# Altium footprint library PASSIVE_SMD.PCBLIB: 238 footprints (part 14 of 15)
Each footprint in its own frame and in the unit in brackets; x right, y up, seen from the top. Pads: shape width x height; smd on the part's side, far side on the other; paste and mask are expansions set on the pad; w line width, h text height; cw(c..) or ccw(c..) is an arc to the next point about the centre after c.
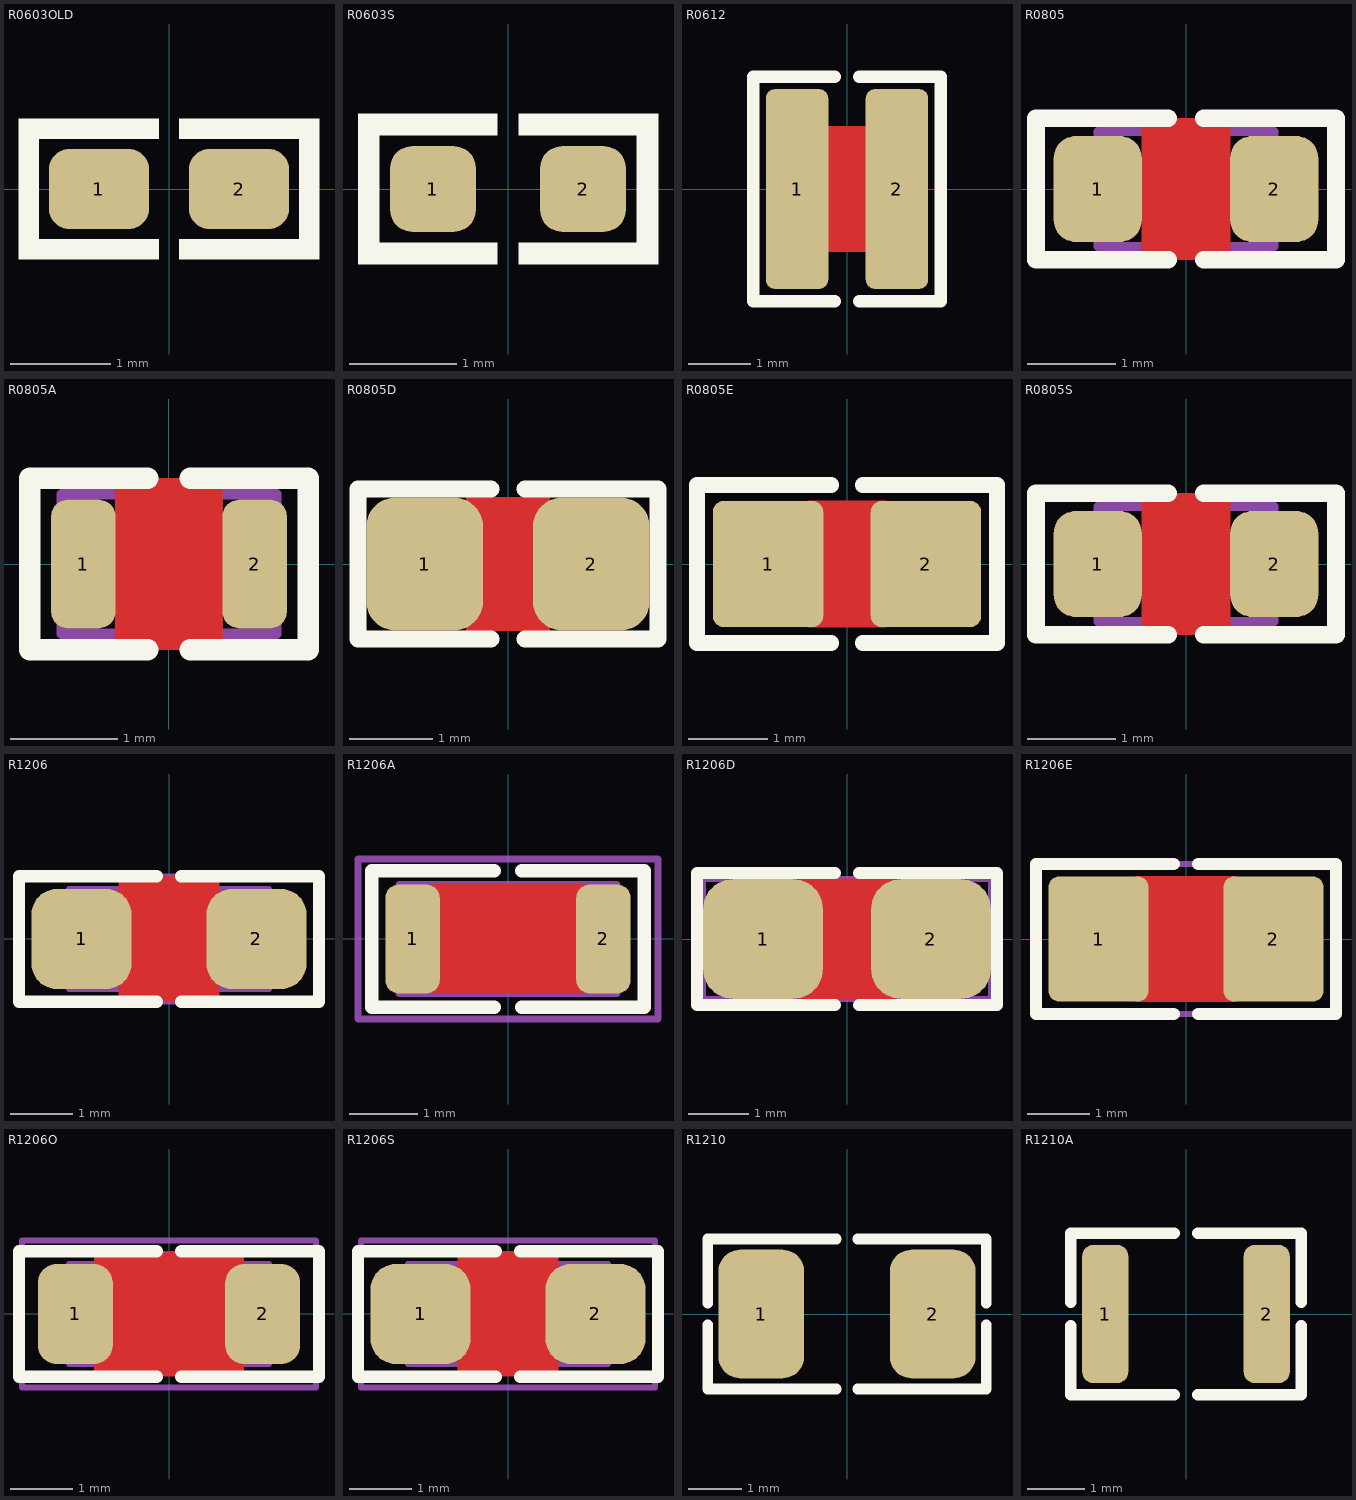
[diagram p13: the footprints below, top view; thin cyan lines are the x and y axes]

## R0603OLD [mm] "CHIP Resistor 1/10 WATT, 1.6x0.8mm, 0603, 1608"
height 0.6
pads (2):
  rrect50% 1x0.8 smd paste-0.4 mask+0.05: 1(-0.7,0) 2(0.7,0)
Top Overlay:
  region: -0.1,-0.5 -0.1,-0.7 -1.5,-0.7 -1.5,-0.5
  region: -0.1,0.5 -0.1,0.7 -1.5,0.7 -1.5,0.5
  region: -1.5,0.7 -1.3,0.7 -1.3,-0.7 -1.5,-0.7
  region: 1.5,0.7 1.3,0.7 1.3,-0.7 1.5,-0.7
  region: 0.1,0.5 0.1,0.7 1.5,0.7 1.5,0.5
  region: 0.1,-0.5 0.1,-0.7 1.5,-0.7 1.5,-0.5
Top Paste:
  region: 0.7,0.35 0.63,0.35 0.502,0.297 0.403,0.198 0.35,0.07 0.35,0 0.35,-0.07 0.403,-0.198 0.502,-0.297 0.63,-0.35 0.7,-0.35 0.9,-0.35 0.93,-0.35 0.985,-0.327 1.027,-0.285 1.05,-0.23 1.05,-0.2 1.05,0.2 1.05,0.23 1.027,0.285 0.985,0.327 0.93,0.35 0.9,0.35
  region: -0.7,0.35 -0.63,0.35 -0.502,0.297 -0.403,0.198 -0.35,0.07 -0.35,0 -0.35,-0.07 -0.403,-0.198 -0.502,-0.297 -0.63,-0.35 -0.7,-0.35 -0.9,-0.35 -0.93,-0.35 -0.985,-0.327 -1.027,-0.285 -1.05,-0.23 -1.05,-0.2 -1.05,0.2 -1.05,0.23 -1.027,0.285 -0.985,0.327 -0.93,0.35 -0.9,0.35
3D body "User Library-RES_1609-0603.step": height 0.56, standoff 0, extent -0.85,-0.4 0.85,0.4

## R0603S [mm] "CHIP Resistor 1/10 WATT, 1.6x0.8mm, 0603, 1608, soldered"
height 0.6
pads (2):
  rrect50% 0.8x0.8 smd paste-5 mask+0.075: 1(-0.7,0) 2(0.7,0)
Top Overlay:
  region: 0.1,-0.5 0.1,-0.7 1.4,-0.7 1.4,-0.5
  region: 0.1,0.5 0.1,0.7 1.4,0.7 1.4,0.5
  region: 1.4,0.7 1.2,0.7 1.2,-0.7 1.4,-0.7
  region: -1.4,0.7 -1.2,0.7 -1.2,-0.7 -1.4,-0.7
  region: -0.1,0.5 -0.1,0.7 -1.4,0.7 -1.4,0.5
  region: -0.1,-0.5 -0.1,-0.7 -1.4,-0.7 -1.4,-0.5
Top Paste:
  region: -0.7,0.35 -0.63,0.35 -0.502,0.297 -0.403,0.198 -0.35,0.07 -0.35,0 -0.35,-0.07 -0.403,-0.198 -0.502,-0.297 -0.63,-0.35 -0.7,-0.35 -0.9,-0.35 -0.93,-0.35 -0.985,-0.327 -1.027,-0.285 -1.05,-0.23 -1.05,-0.2 -1.05,0.2 -1.05,0.23 -1.027,0.285 -0.985,0.327 -0.93,0.35 -0.9,0.35
  region: 0.7,0.35 0.63,0.35 0.502,0.297 0.403,0.198 0.35,0.07 0.35,0 0.35,-0.07 0.403,-0.198 0.502,-0.297 0.63,-0.35 0.7,-0.35 0.9,-0.35 0.93,-0.35 0.985,-0.327 1.027,-0.285 1.05,-0.23 1.05,-0.2 1.05,0.2 1.05,0.23 1.027,0.285 0.985,0.327 0.93,0.35 0.9,0.35
3D body "r0603_Res1-1.step": height 0.8, standoff 0, extent -1.23,-0.4 1.23,0.4

## R0612 [mm] "CHIP RESISTOR 1/4 WATT, Body 1.6x3.2mm, 1632, 0612"
height 2
pads (2):
  rrect30% 1x3.2 smd mask+0.075: 1(-0.8,0) 2(0.8,0)
Top Layer:
  pour cut-out: -0.8,1 -0.8,-1 0.8,-1 0.8,1
Top Overlay:
  lines w0.2: -0.2,-1.8 -1.5,-1.8 -1.5,1.8 -0.2,1.8 ; 0.2,-1.8 1.5,-1.8 1.5,1.8 0.2,1.8
Mechanical 15:
  lines w0.1: -0.5,0 0.5,0 ; 0,-0.5 0,0.5
3D body "User Library-wk732b.step": height 0.61, standoff 0, extent -0.8,-1.6 0.8,1.6

## R0805 [mm] "CHIP RESISTOR 1/8 WATT ,2.0X1.3mm, 0805, 2012"
pads (2):
  rrect50% 1x1.2 smd paste-0.1 mask+0.075: 1(-1,0) 2(1,0)
Top Layer:
  pour cut-out: -0.5,0.8 0.5,0.8 0.5,-0.8 -0.5,-0.8
Top Overlay:
  lines w0.2: -0.2,-0.8 -1.7,-0.8 -1.7,0.8 -0.2,0.8 ; 0.2,-0.8 1.7,-0.8 1.7,0.8 0.2,0.8
Mechanical 13:
  lines w0.1: -1,-0.65 -1,0.65 1,0.65 1,-0.65 -1,-0.65
3D body "User Library-RES_2013-0805.step": height 0.76, standoff 0, extent -1.15,-0.675 1.15,0.675

## R0805A [mm] "CHIP RESISTOR 1/8 WATT ,2.0X1.3mm, 0805, for PCBA"
pads (2):
  rrect50% 0.6x1.2 smd mask+0.075: 1(-0.8,0) 2(0.8,0)
Top Layer:
  pour cut-out: -0.5,0.8 0.5,0.8 0.5,-0.8 -0.5,-0.8
Top Overlay:
  lines w0.2: -0.2,-0.8 -1.3,-0.8 -1.3,0.8 -0.2,0.8 ; 0.2,-0.8 1.3,-0.8 1.3,0.8 0.2,0.8
Mechanical 13:
  lines w0.1: -1,-0.65 1,-0.65 1,0.65 -1,0.65 -1,-0.65
3D body "User Library-RES_2013-0805.step": height 0.76, standoff 0, extent -1.15,-0.675 1.15,0.675

## R0805D [mm] "CHIP RESISTOR 1/8 WATT ,2.0X1.3mm, 0805, 2012, SMD (SolderMask Defined)"
pads (2):
  rrect50% 1.4x1.6 smd paste-5 mask-0.2: 1(-1,0) 2(1,0)
Top Layer:
  pour cut-out: -0.5,0.8 0.5,0.8 0.5,-0.8 -0.5,-0.8
Top Overlay:
  lines w0.2: -0.2,-0.9 -1.8,-0.9 -1.8,0.9 -0.2,0.9 ; 0.2,-0.9 1.8,-0.9 1.8,0.9 0.2,0.9
Top Paste:
  region: 0.9,0.5 0.82,0.5 0.673,0.439 0.561,0.327 0.5,0.18 0.5,0.1 0.5,-0.1 0.5,-0.18 0.561,-0.327 0.673,-0.439 0.82,-0.5 0.9,-0.5 1.15,-0.5 1.18,-0.5 1.235,-0.477 1.277,-0.435 1.3,-0.38 1.3,-0.35 1.3,0.35 1.3,0.38 1.277,0.435 1.235,0.477 1.18,0.5 1.15,0.5
  region: -0.9,0.5 -0.82,0.5 -0.673,0.439 -0.561,0.327 -0.5,0.18 -0.5,0.1 -0.5,-0.1 -0.5,-0.18 -0.561,-0.327 -0.673,-0.439 -0.82,-0.5 -0.9,-0.5 -1.15,-0.5 -1.18,-0.5 -1.235,-0.477 -1.277,-0.435 -1.3,-0.38 -1.3,-0.35 -1.3,0.35 -1.3,0.38 -1.277,0.435 -1.235,0.477 -1.18,0.5 -1.15,0.5
Mechanical 13:
  lines w0.1: -1,-0.65 -1,0.65 1,0.65 1,-0.65 -1,-0.65
3D body "User Library-RES_2013-0805.step": height 0.76, standoff 0, extent -1.15,-0.675 1.15,0.675

## R0805E [mm] "CHIP RESISTOR 1/8 WATT ,2.0X1.3mm, 0805, EXPANDED PAD"
pads (2):
  rrect20% 1.4x1.6 smd paste-0.7 mask+0.1: 1(-1,0) 2(1,0)
Top Layer:
  pour cut-out: -0.5,0.8 0.5,0.8 0.5,-0.8 -0.5,-0.8
Top Overlay:
  lines w0.2: -0.2,-1 -1.9,-1 -1.9,1 -0.2,1 ; 0.2,-1 1.9,-1 1.9,1 0.2,1
Top Paste:
  region: 0.5,0.2 0.5,0.28 0.561,0.427 0.673,0.539 0.82,0.6 0.9,0.6 1.4,0.6 1.44,0.6 1.513,0.57 1.57,0.513 1.6,0.44 1.6,0.4 1.6,-0.4 1.6,-0.44 1.57,-0.513 1.513,-0.57 1.44,-0.6 1.4,-0.6 0.9,-0.6 0.82,-0.6 0.673,-0.539 0.561,-0.427 0.5,-0.28 0.5,-0.2
  region: -0.5,0.2 -0.5,0.28 -0.561,0.427 -0.673,0.539 -0.82,0.6 -0.9,0.6 -1.4,0.6 -1.44,0.6 -1.513,0.57 -1.57,0.513 -1.6,0.44 -1.6,0.4 -1.6,-0.4 -1.6,-0.44 -1.57,-0.513 -1.513,-0.57 -1.44,-0.6 -1.4,-0.6 -0.9,-0.6 -0.82,-0.6 -0.673,-0.539 -0.561,-0.427 -0.5,-0.28 -0.5,-0.2
3D body "User Library-RES_2013-0805.step": height 0.76, standoff 0, extent -1.15,-0.675 1.15,0.675

## R0805S [mm] "CHIP RESISTOR 1/8 WATT ,2.0X1.3mm, 0805, 2012, soldered"
pads (2):
  rrect50% 1x1.2 smd paste-0.1 mask+0.075: 1(-1,0) 2(1,0)
Top Layer:
  pour cut-out: -0.5,0.8 0.5,0.8 0.5,-0.8 -0.5,-0.8
Top Overlay:
  lines w0.2: -0.2,-0.8 -1.7,-0.8 -1.7,0.8 -0.2,0.8 ; 0.2,-0.8 1.7,-0.8 1.7,0.8 0.2,0.8
Mechanical 13:
  lines w0.1: -1,-0.65 -1,0.65 1,0.65 1,-0.65 -1,-0.65
3D body "r0805_Res1.step": height 0.8, standoff 0, extent -1.4,-0.625 1.4,0.625

## R1206 [mm] "CHIP RESISTOR 1/4 WATT, Body 3.2x1.6mm,1206, 3216"
height 2
pads (2):
  rrect50% 1.6x1.6 smd paste-0.8 mask+0.075: 1(-1.4,0) 2(1.4,0)
Top Layer:
  pour cut-out: -0.8,1 -0.8,-1 0.8,-1 0.8,1
Top Overlay:
  lines w0.2: -2.4,-1 -0.2,-1 ; -2.4,-1 -2.4,1 -0.2,1 ; 0.2,-1 2.4,-1 ; 0.2,1 2.4,1 2.4,-1
Top Paste:
  region: -0.7,-0.1 -0.7,0.1 -0.7,0.219 -0.791,0.44 -0.96,0.609 -1.181,0.7 -1.3,0.7 -1.8,0.7 -1.86,0.7 -1.97,0.654 -2.054,0.57 -2.1,0.46 -2.1,0.4 -2.1,-0.4 -2.1,-0.46 -2.054,-0.57 -1.97,-0.654 -1.86,-0.7 -1.8,-0.7 -1.3,-0.7 -1.181,-0.7 -0.96,-0.609 -0.791,-0.44 -0.7,-0.219
  region: 0.7,-0.1 0.7,0.1 0.7,0.219 0.791,0.44 0.96,0.609 1.181,0.7 1.3,0.7 1.8,0.7 1.86,0.7 1.97,0.654 2.054,0.57 2.1,0.46 2.1,0.4 2.1,-0.4 2.1,-0.46 2.054,-0.57 1.97,-0.654 1.86,-0.7 1.8,-0.7 1.3,-0.7 1.181,-0.7 0.96,-0.609 0.791,-0.44 0.7,-0.219
Mechanical 13:
  lines w0.1: -1.6,-0.8 1.6,-0.8 1.6,0.8 -1.6,0.8 -1.6,-0.8
Mechanical 15:
  lines w0.1: -0.5,0 0.5,0 ; 0,-0.5 0,0.5 ; -2.4,-1 2.4,-1 2.4,1 -2.4,1 -2.4,-1
3D body "User Library-RES_3216-1206.step": height 0.85, standoff 0, extent -1.675,-0.865 1.675,0.865

## R1206A [mm] "CHIP RESISTOR 1/4 WATT, Body 3.2x1.6mm,1206, for PCBA"
height 2
pads (2):
  rrect50% 0.8x1.6 smd mask+0.075: 1(-1.4,0) 2(1.4,0)
Top Layer:
  pour cut-out: -1.1,0.8 -1.1,-0.8 1.1,-0.8 1.1,0.8
Top Overlay:
  lines w0.2: -0.2,-1 -2,-1 -2,1 -0.2,1 ; 0.2,-1 2,-1 2,1 0.2,1
Mechanical 13:
  lines w0.1: -1.6,-0.8 -1.6,0.8 1.6,0.8 1.6,-0.8 -1.6,-0.8
Mechanical 15:
  lines w0.1: -0.5,0 0.5,0 ; 0,-0.5 0,0.5 ; -2.2,-1.175 -2.2,1.175 2.2,1.175 2.2,-1.175 -2.2,-1.175
3D body "User Library-RES_3216-1206.step": height 0.85, standoff 0, extent -1.675,-0.865 1.675,0.865

## R1206D [mm] "CHIP RESISTOR 1/4 WATT, Body 3.2x1.6mm,1206, 3216, SMD (SolderMask Defined)"
height 2
pads (2):
  rrect50% 2x2 smd paste-1 mask-0.2: 1(-1.4,0) 2(1.4,0)
Top Layer:
  pour cut-out: -0.8,1 -0.8,-1 0.8,-1 0.8,1
Top Overlay:
  lines w0.2: -0.2,-1.1 -2.5,-1.1 -2.5,1.1 -0.2,1.1 ; 0.2,-1.1 2.5,-1.1 2.5,1.1 0.2,1.1
Top Paste:
  region: 0.7,-0.1 0.7,0.1 0.7,0.219 0.791,0.44 0.96,0.609 1.181,0.7 1.3,0.7 1.8,0.7 1.86,0.7 1.97,0.654 2.054,0.57 2.1,0.46 2.1,0.4 2.1,-0.4 2.1,-0.46 2.054,-0.57 1.97,-0.654 1.86,-0.7 1.8,-0.7 1.3,-0.7 1.181,-0.7 0.96,-0.609 0.791,-0.44 0.7,-0.219
  region: -0.7,-0.1 -0.7,0.1 -0.7,0.219 -0.791,0.44 -0.96,0.609 -1.181,0.7 -1.3,0.7 -1.8,0.7 -1.86,0.7 -1.97,0.654 -2.054,0.57 -2.1,0.46 -2.1,0.4 -2.1,-0.4 -2.1,-0.46 -2.054,-0.57 -1.97,-0.654 -1.86,-0.7 -1.8,-0.7 -1.3,-0.7 -1.181,-0.7 -0.96,-0.609 -0.791,-0.44 -0.7,-0.219
Mechanical 13:
  lines w0.1: -1.6,-0.8 1.6,-0.8 1.6,0.8 -1.6,0.8 -1.6,-0.8
Mechanical 15:
  lines w0.1: -0.5,0 0.5,0 ; 0,-0.5 0,0.5 ; -2.4,-1 -2.4,1 2.4,1 2.4,-1 -2.4,-1
3D body "User Library-RES_3216-1206.step": height 0.85, standoff 0, extent -1.675,-0.865 1.675,0.865

## R1206E [mm] "CHIP RESISTOR 1/4 WATT, EXPANDED PAD"
height 2
pads (2):
  rrect20% 1.6x2 smd paste-0.8 mask+0.075: 1(-1.4,0) 2(1.4,0)
Top Layer:
  pour cut-out: -0.8,1 -0.8,-1 0.8,-1 0.8,1
Top Overlay:
  lines w0.2: -0.2,-1.2 -2.4,-1.2 -2.4,1.2 -0.2,1.2 ; 0.2,-1.2 2.4,-1.2 2.4,1.2 0.2,1.2
Top Paste:
  region: -0.7,-0.2 -0.7,0.25 -0.7,0.359 -0.784,0.562 -0.938,0.716 -1.141,0.8 -1.25,0.8 -1.95,0.8 -1.99,0.8 -2.063,0.77 -2.12,0.713 -2.15,0.64 -2.15,0.6 -2.15,-0.55 -2.15,-0.59 -2.12,-0.663 -2.063,-0.72 -1.99,-0.75 -1.95,-0.75 -1.25,-0.75 -1.141,-0.75 -0.938,-0.666 -0.784,-0.512 -0.7,-0.309
  region: 0.7,-0.2 0.7,0.25 0.7,0.359 0.784,0.562 0.938,0.716 1.141,0.8 1.25,0.8 1.95,0.8 1.99,0.8 2.063,0.77 2.12,0.713 2.15,0.64 2.15,0.6 2.15,-0.55 2.15,-0.59 2.12,-0.663 2.063,-0.72 1.99,-0.75 1.95,-0.75 1.25,-0.75 1.141,-0.75 0.938,-0.666 0.784,-0.512 0.7,-0.309
Mechanical 13:
  lines w0.1: -1.6,-0.8 -1.6,0.8 1.6,0.8 1.6,-0.8 -1.6,-0.8
Mechanical 15:
  lines w0.1: -0.5,0 0.5,0 ; 0,-0.5 0,0.5 ; -2.4,-1.2 2.4,-1.2 2.4,1.2 -2.4,1.2 -2.4,-1.2
3D body "User Library-RES_3216-1206.step": height 0.85, standoff 0, extent -1.675,-0.865 1.675,0.865

## R1206O [mm] "CHIP RESISTOR 1/4 WATT, Body 3.2x1.6mm,1206, 3216"
height 2
pads (2):
  rrect50% 1.2x1.6 smd mask+0.075: 1(-1.5,0) 2(1.5,0)
Top Layer:
  pour cut-out: -1.2,1 -1.2,-1 1.2,-1 1.2,1
Top Overlay:
  lines w0.2: -2.4,-1 -0.2,-1 ; -2.4,-1 -2.4,1 -0.2,1 ; 0.2,-1 2.4,-1 ; 0.2,1 2.4,1 2.4,-1
Mechanical 13:
  lines w0.1: -1.6,-0.8 -1.6,0.8 1.6,0.8 1.6,-0.8 -1.6,-0.8
Mechanical 15:
  lines w0.1: -0.5,0 0.5,0 ; 0,-0.5 0,0.5 ; -2.35,-1.175 -2.35,1.175 2.35,1.175 2.35,-1.175 -2.35,-1.175
3D body "User Library-RES_3216-1206.step": height 0.85, standoff 0, extent -1.675,-0.865 1.675,0.865

## R1206S [mm] "CHIP RESISTOR 1/4 WATT, Body 3.2x1.6mm,1206, 3216, soldered"
height 2
pads (2):
  rrect50% 1.6x1.6 smd paste-0.1 mask+0.075: 1(-1.4,0) 2(1.4,0)
Top Layer:
  pour cut-out: -0.8,1 -0.8,-1 0.8,-1 0.8,1
Top Overlay:
  lines w0.2: -2.4,-1 -0.2,-1 ; -2.4,-1 -2.4,1 -0.2,1 ; 0.2,-1 2.4,-1 ; 0.2,1 2.4,1 2.4,-1
Mechanical 13:
  lines w0.1: -1.6,-0.8 1.6,-0.8 1.6,0.8 -1.6,0.8 -1.6,-0.8
Mechanical 15:
  lines w0.1: -0.5,0 0.5,0 ; 0,-0.5 0,0.5 ; -2.35,-1.175 2.35,-1.175 2.35,1.175 -2.35,1.175 -2.35,-1.175
3D body "r1206_Res1.step": height 1.25, standoff 0, extent -2.27,-0.8 2.27,0.8

## R1210 [mm] "CHIP RESISTOR 1/2 WATT, Body 3.2x2.5mm,1210, 3225"
height 0.7
pads (2):
  rrect50% 1.6x2.4 smd paste-0.2 mask+0.075: 1(-1.6,0) 2(1.6,0)
Top Overlay:
  lines w0.2: -2.6,-0.2 -2.6,-1.4 -0.2,-1.4 ; -2.6,0.2 -2.6,1.4 -0.2,1.4 ; 0.2,-1.4 2.6,-1.4 2.6,-0.2 ; 0.2,1.4 2.6,1.4 2.6,0.2
3D body "RES 1210 (3225 metric).STEP": height 0.69, standoff -0.01, extent -1.7,-1.35 1.7,1.35

## R1210A [mm] "CHIP RESISTOR 1/2 WATT, Body 3.2x2.5mm,1210, for PCBA"
height 0.7
pads (2):
  rrect50% 0.8x2.4 smd mask+0.075: 1(-1.4,0) 2(1.4,0)
Top Overlay:
  lines w0.2: -2,-0.2 -2,-1.4 -0.2,-1.4 ; -2,0.2 -2,1.4 -0.2,1.4 ; 0.2,-1.4 2,-1.4 2,-0.2 ; 0.2,1.4 2,1.4 2,0.2
3D body "RES 1210 (3225 metric).STEP": height 0.69, standoff -0.01, extent -1.7,-1.35 1.7,1.35